# EAGLE library part LTC3833 (library PowerProducts)
LT-Spice library generated with : ltspice.ulp from: D:/Program Files (x86)/LTC/LTspiceIV/lib/sym/PowerProducts/LTC3834-1*.asy at 07.10.2012 18:38:47
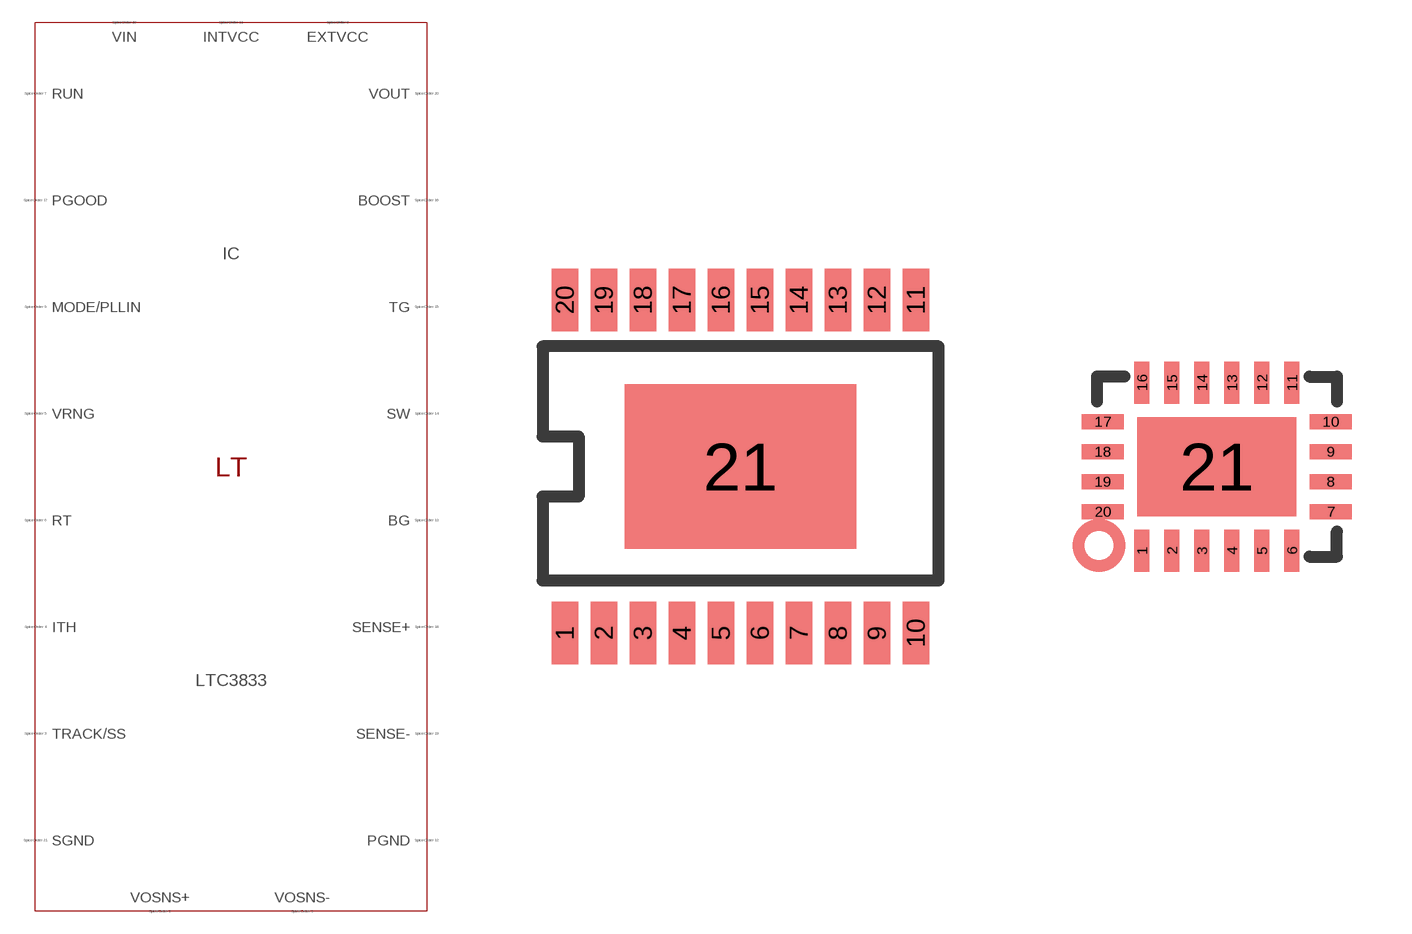
[diagram p357: symbol with the pads of TSSOP20CB(FE); footprints TSSOP20CB(FE), QFN20(UDC)]

Designator prefix IC

## LTC3833 (SPICEMODEL: LTC3833.sub; SPICEPREFIX: X; VALUE2: LTC3833)  [TSSOP20CB(FE)]
1  PGOOD  pas
2  SENSE+  pas
3  SENSE-  pas
4  VOUT  pas
5  VOSNS-  pas
6  VOSNS+  pas
7  TRACK/SS  pas
8  ITH  pas
9  VRNG  pas
10  RT  pas
11  RUN  pas
12  EXTVCC  pas
13  MODE/PLLIN  pas
14  VIN  pas
15  INTVCC  pas
16  PGND  pas
17  BG  pas
18  SW  pas
19  TG  pas
20  BOOST  pas
21  SGND  pas

## LTC3833UDC (SPICEMODEL: LTC3833.sub; SPICEPREFIX: X; VALUE2: LTC3833)  [QFN20(UDC)]
1  VOSNS-  pas
2  VOSNS+  pas
3  TRACK/SS  pas
4  ITH  pas
5  VRNG  pas
6  RT  pas
7  RUN  pas
8  EXTVCC  pas
9  MODE/PLLIN  pas
10  VIN  pas
11  INTVCC  pas
12  PGND  pas
13  BG  pas
14  SW  pas
15  TG  pas
16  BOOST  pas
17  PGOOD  pas
18  SENSE+  pas
19  SENSE-  pas
20  VOUT  pas
21  SGND  pas

## Footprint TSSOP20CB(FE) (pad centres in mm)
Package generated from: TSSOP20CB(FE).asc (!PADS-POWERPCB-V5.0-BASIC! DESIGN DATABASE ASCII FILE 1.0) with :import-pads-powerpcb-v5.ulp Version 1.0.1 at 04.10.2012 14:11:40
smd 0.66 x 1.575: 1 -4.388,-4.162; 2 -3.413,-4.162; 3 -2.438,-4.162; 4 -1.462,-4.162; 5 -0.487,-4.162; 6 0.487,-4.162; 7 1.462,-4.162; 8 2.438,-4.162; 9 3.413,-4.162; 10 4.388,-4.162; 11 4.388,4.162; 12 3.413,4.162; 13 2.438,4.162; 14 1.462,4.162; 15 0.487,4.162; 16 -0.487,4.162; 17 -1.462,4.162; 18 -2.438,4.162; 19 -3.413,4.162; 20 -4.388,4.162
smd 5.79 x 4.11: 21 0,0

## Footprint QFN20(UDC) (pad centres in mm)
Package generated from: QFN20(UDC).asc (!PADS-POWERPCB-V9.3-BASIC! DESIGN DATABASE ASCII FILE 1.0) with :import-pads-powerpcb-v5.ulp Version 1.0.1 at 04.10.2012 14:11:23
smd 0.375 x 1.05: 1 -1.875,-2.1; 2 -1.125,-2.1; 3 -0.375,-2.1; 4 0.375,-2.1; 5 1.125,-2.1; 6 1.875,-2.1; 11 1.875,2.1; 12 1.125,2.1; 13 0.375,2.1; 14 -0.375,2.1; 15 -1.125,2.1; 16 -1.875,2.1
smd 1.05 x 0.375: 7 2.85,-1.125; 8 2.85,-0.375; 9 2.85,0.375; 10 2.85,1.125; 17 -2.85,1.125; 18 -2.85,0.375; 19 -2.85,-0.375; 20 -2.85,-1.125
smd 3.975 x 2.475: 21 0,0